# EAGLE library part NSJ12HF-1 (library keves-ng)
Phone Connectors 1/4" STACKING STEREO Source: Datasheet <http://www.neutrik.us/zoolu-website/media/download/13538/Product Guide - Section Plugs & Jacks.pdf>
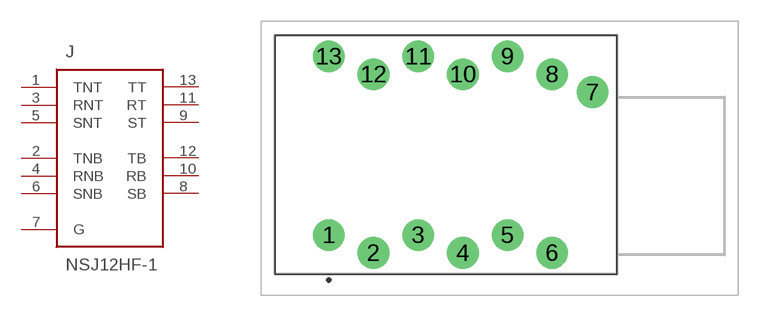
[diagram p4: symbol with the pads of NSJ12HF1; footprint NSJ12HF1]

Designator prefix J

## NSJ12HF-1 (DESCRIPTION: Phone Connectors 1/4" STACKING STEREO; HEIGHT: 31.75mm; MANUFACTURER_NAME: Neutrik; MANUFACTURER_PART_NUMBER: NSJ12HF-1; MOUSER_PART_NUMBER: 568-NSJ12HF-1; MOUSER_PRICE-STOCK: https://www.mouser.co.uk/ProductDetail/Neutrik/NSJ12HF-1?qs=43pPWqpsSNuxu1dXwKXeEA%3D%3D)  [NSJ12HF1]
1  TNT
2  TNB
3  RNT
4  RNB
5  SNT
6  SNB
7  G
8  SB
9  ST
10  RB
11  RT
12  TB
13  TT

## Footprint NSJ12HF1 (pad centres in mm)
NSJ12HF-1-2
drill 1.5 pad 2.25: 1 0,0; 2 3.18,-1.27; 3 6.35,0; 4 9.53,-1.27; 5 12.7,0; 6 15.874,-1.27; 7 18.75,10.16; 8 15.874,11.43; 9 12.7,12.7; 10 9.53,11.43; 11 6.35,12.7; 12 3.18,11.43; 13 0,12.7